# Altium footprint library EC28A1550401.PcbLib: 1 footprints
Each footprint in its own frame and in the unit in brackets; x right, y up, seen from the top. Pads: shape width x height; smd on the part's side, far side on the other; paste and mask are expansions set on the pad; w line width, h text height; cw(c..) or ccw(c..) is an arc to the next point about the centre after c.
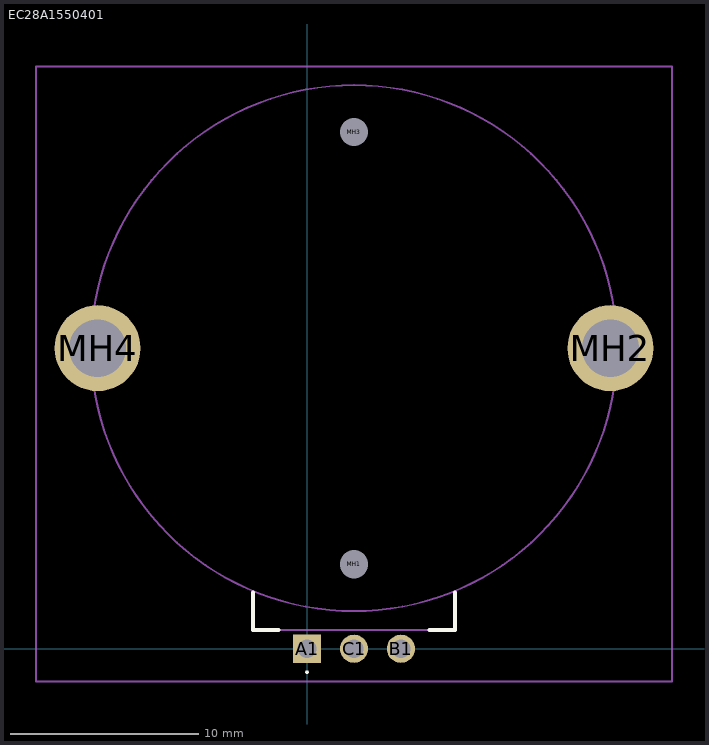
[diagram p0: the footprint, top view; thin cyan lines are the x and y axes]

## EC28A1550401 [mm]
pads (7):
  rect 1.5x1.5 hole 1: A1(0,0)
  round 1.5 hole 1: B1(5,0) C1(2.5,0)
  round 0.75 hole 1.5 unplated: MH1(2.5,4.5) MH3(2.5,27.5)
  round 4.575 hole 3.05: MH2(16.15,16) MH4(-11.15,16)
Top Overlay:
  lines w0.1: 0,-1.3 cw(c0,-1.25) 0,-1.2 ; 0,-1.3 0,-1.3 ; 0,-1.3 ccw(c0,-1.25) 0,-1.2 ; 0,-1.2 0,-1.2
  lines w0.2: -2.875,3 -2.875,1 -1.5,1 ; 6.5,1 7.875,1 7.875,3
Mechanical 15:
  lines w0.1: -2.875,3 -2.875,1 7.875,1 7.875,3 ; -11.5,16 -11.5,16 ; -11.5,16 ccw(c2.5,16) 16.5,16 ; -11.5,16 cw(c2.5,16) 16.5,16 ; 16.5,16 16.5,16
Mechanical 20:
  lines w0.1: -14.438,-1.75 19.438,-1.75 19.438,31 -14.438,31 -14.438,-1.75